# Altium footprint library PcbLib1.PcbLib: 22 footprints (part 1 of 2)
Each footprint in its own frame and in the unit in brackets; x right, y up, seen from the top. Pads: shape width x height; smd on the part's side, far side on the other; paste and mask are expansions set on the pad; w line width, h text height; cw(c..) or ccw(c..) is an arc to the next point about the centre after c.
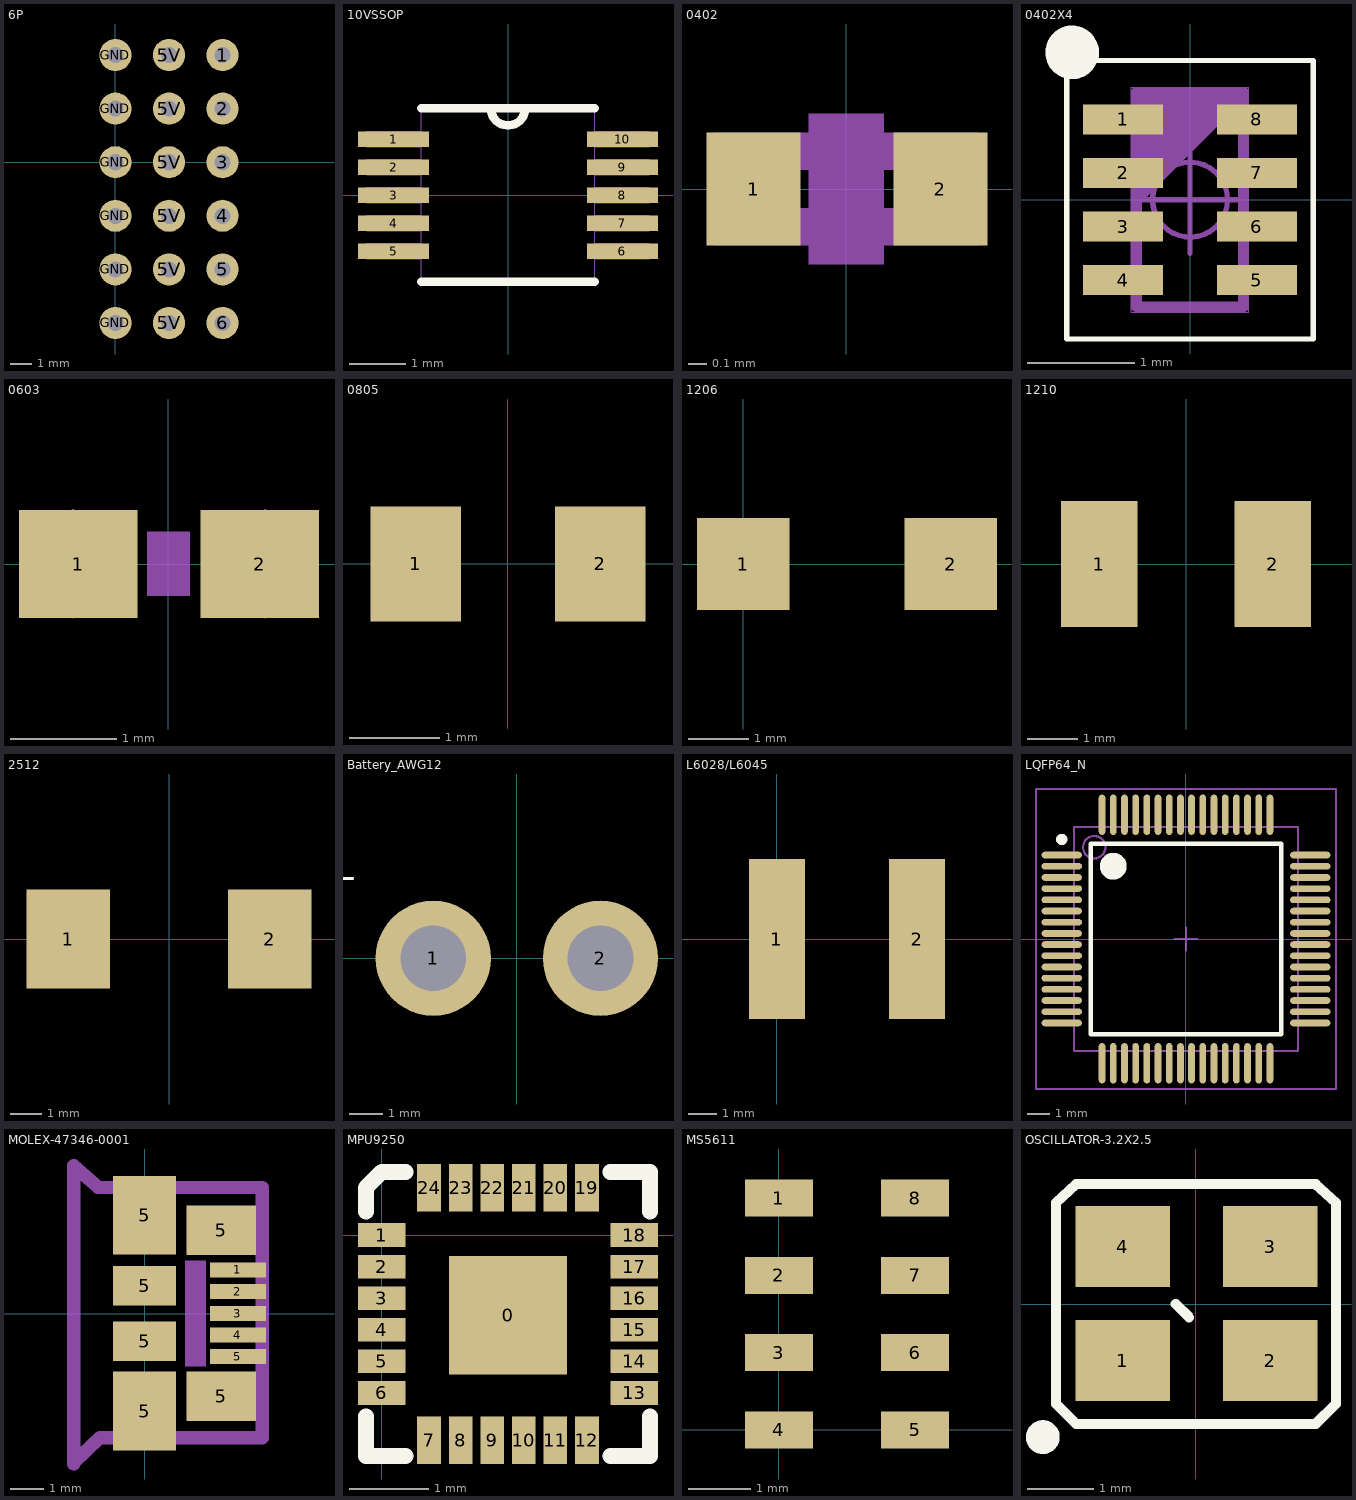
[diagram p0: the footprints below, top view; thin cyan lines are the x and y axes]

## 6P [mil]
pads (18):
  round 60 hole 30: 1(200,200) 2(200,100) 3(200,0) 4(200,-100) 5(200,-200) 5V(100,-300) 5V(100,-200) 5V(100,-100) 5V(100,0) 5V(100,100) 5V(100,200) 6(200,-300) GND(0,-300) GND(0,-200) GND(0,-100) GND(0,0) GND(0,100) GND(0,200)

## 10VSSOP [mil]
pads (10):
  rect 50x11 smd: 1(-80.5,39.37) 2(-80.5,19.68) 3(-80.5,0) 4(-80.5,-19.68) 5(-80.5,-39.37) 6(80.5,-39.37) 7(80.5,-19.68) 8(80.5,0) 9(80.5,19.68) 10(80.5,39.37)
Top Overlay:
  lines w6: -61,-61 61,-61 ; -61,61 61,61 ; -12,61 ccw(c0,61) 12,61
Mechanical 1:
  lines w0: -12,61 ccw(c0,61) 12,61 ; -99.5,-44.87 -61,-44.87 -61,-33.87 -99.5,-33.87 -99.5,-44.87 ; -99.5,-25.18 -61,-25.18 -61,-14.19 -99.5,-14.19 -99.5,-25.18 ; -99.5,-5.5 -61,-5.5 -61,5.5 -99.5,5.5 -99.5,-5.5 ; -99.5,14.19 -61,14.19 -61,25.18 -99.5,25.18 -99.5,14.19 ; -99.5,33.87 -61,33.87 -61,44.87 -99.5,44.87 -99.5,33.87 ; -61,-61 -61,61 61,61 61,-61 -61,-61 ; 61,-44.87 99.5,-44.87 99.5,-33.87 61,-33.87 61,-44.87 ; 61,-25.18 99.5,-25.18 99.5,-14.19 61,-14.19 61,-25.18 ; 61,-5.5 99.5,-5.5 99.5,5.5 61,5.5 61,-5.5 ; 61,14.19 99.5,14.19 99.5,25.18 61,25.18 61,14.19 ; 61,33.87 99.5,33.87 99.5,44.87 61,44.87 61,33.87

## 0402 [mil] "0402-RES"
pads (2):
  rect 20x24 smd: 1(-19.68,0) 2(20,0)
Mechanical 6:
  rectangle: -8,-16 8,16
Mechanical 16:
  rectangle: -28,-12 -16,12
  rectangle: 16,-12 28,12
  lines w8: -20,-8 20,-8 ; -20,8 20,8

## 0402X4 [mm]
pads (8):
  rect 0.75x0.28 smd: 1(-0.625,0.75) 2(-0.625,0.25) 3(-0.625,-0.25) 4(-0.625,-0.75) 5(0.625,-0.75) 6(0.625,-0.25) 7(0.625,0.25) 8(0.625,0.75)
Top Overlay:
  circle w0.25: c-1.1,1.375 r0.125
  lines w0.05: -1.15,-1.3 -1.15,1.3 1.15,1.3 1.15,-1.3 -1.15,-1.3
Mechanical 1:
  lines w0.1: 0.5,1 -0.5,0 0.5,1 ; 0.5,1 -0.5,1 -0.5,-1 0.5,-1 0.5,1 ; -0.5,0.1 0.4,1 -0.5,0.1 ; -0.5,0.2 0.3,1 -0.5,0.2 ; -0.5,0.3 0.2,1 -0.5,0.3 ; -0.5,0.4 0.1,1 -0.5,0.4 ; -0.5,0.5 0,1 -0.5,0.5 ; -0.5,0.6 -0.1,1 -0.5,0.6 ; -0.5,0.7 -0.2,1 -0.5,0.7 ; -0.5,0.8 -0.3,1 -0.5,0.8 ; -0.5,0.9 -0.4,1 -0.5,0.9
  text "R1" at 0.18,-0.199 h0.3
Mechanical 16:
  circle w0.05: c0,0 r0.35
  lines w0.001: -0.55,-1.05 -0.55,1.05 0.55,1.05 0.55,-1.05 -0.55,-1.05
  lines w0.05: -0.5,0 0.5,0 ; 0,-0.5 0,0.5

## 0603 [mil] "0603-RES"
pads (2):
  rect 44x40 smd: 1(-33.46,0) 2(34,0)
Mechanical 6:
  rectangle: -7.87,-11.81 8,12
Mechanical 16:
  rectangle: -32.98,-18.5 -13.29,19
  rectangle: 13,-18.5 33,19
  lines w1: -35.43,-19.68 -35.43,20 ; 36,-19.68 36,20

## 0805 [mm]
pads (2):
  rect 1x1.27 smd: 1(-1.016,0) 2(1.016,0)
3D body: height 0.8, standoff 0, extent -1.27,-0.762 1.27,0.762

## 1206 [mil]
pads (2):
  rect 60x60 smd: 1(0,0) 2(135,0)

## 1210 [mm]
pads (2):
  rect 1.52x2.5 smd: 1(-1.715,0) 2(1.715,0)

## 2512 [mm]
pads (2):
  rect 2.7x3.2 smd: 1(-3.25,0) 2(3.25,0)

## Battery_AWG12 [mm]
pads (2):
  round 3.5 hole 2: 1(-2.54,0) 2(2.54,0)
Top Overlay:
  text "+" at -4.826,2.032 h0.89

## L6028/L6045 [mm]
pads (2):
  rect 2x5.7 smd: 1(0,0) 2(5,0)

## LQFP64_N [mm]
pads (64):
  oval 1.8x0.3 smd: 1(-5.55,3.75) 2(-5.55,3.25) 3(-5.55,2.75) 4(-5.55,2.25) 5(-5.55,1.75) 6(-5.55,1.25) 7(-5.55,0.75) 8(-5.55,0.25) 9(-5.55,-0.25) 10(-5.55,-0.75) 11(-5.55,-1.25) 12(-5.55,-1.75) 13(-5.55,-2.25) 14(-5.55,-2.75) 15(-5.55,-3.25) 16(-5.55,-3.75) 33(5.55,-3.75) 34(5.55,-3.25) 35(5.55,-2.75) 36(5.55,-2.25) 37(5.55,-1.75) 38(5.55,-1.25) 39(5.55,-0.75) 40(5.55,-0.25) 41(5.55,0.25) 42(5.55,0.75) 43(5.55,1.25) 44(5.55,1.75) 45(5.55,2.25) 46(5.55,2.75) 47(5.55,3.25) 48(5.55,3.75)
  oval 0.3x1.8 smd: 17(-3.75,-5.55) 18(-3.25,-5.55) 19(-2.75,-5.55) 20(-2.25,-5.55) 21(-1.75,-5.55) 22(-1.25,-5.55) 23(-0.75,-5.55) 24(-0.25,-5.55) 25(0.25,-5.55) 26(0.75,-5.55) 27(1.25,-5.55) 28(1.75,-5.55) 29(2.25,-5.55) 30(2.75,-5.55) 31(3.25,-5.55) 32(3.75,-5.55) 49(3.75,5.55) 50(3.25,5.55) 51(2.75,5.55) 52(2.25,5.55) 53(1.75,5.55) 54(1.25,5.55) 55(0.75,5.55) 56(0.25,5.55) 57(-0.25,5.55) 58(-0.75,5.55) 59(-1.25,5.55) 60(-1.75,5.55) 61(-2.25,5.55) 62(-2.75,5.55) 63(-3.25,5.55) 64(-3.75,5.55)
Top Overlay:
  circle w0.25: c-5.55,4.45 r0.125
  circle w0.6: c-3.25,3.25 r0.3
  lines w0.2: -4.25,-4.25 -4.25,4.25 4.25,4.25 4.25,-4.25 -4.25,-4.25
Mechanical 13:
  circle w0.1: c-4.1,4.1 r0.5
  lines w0.1: -5,-5 -5,5 5,5 5,-5 -5,-5
Mechanical 15:
  lines w0.1: -0.5,0 0.5,0 ; 0,-0.5 0,0.5 ; -6.7,-6.7 -6.7,6.7 6.7,6.7 6.7,-6.7 -6.7,-6.7

## MOLEX-47346-0001 [mil] "MOLEX-47346-0001"
pads (11):
  rect 67x18 smd: 1(111,52) 2(111,26) 3(111,0) 4(111,-25.59) 5(111,-51.18)
  rect 75x94 smd: 5(0,-116.14) 5(0,117)
  rect 75x47 smd: 5(0,-32.97) 5(0,33)
  rect 83x59 smd: 5(91,-98.43) 5(91,99)
Mechanical 8:
  rectangle: 48,-62.99 73,63
Mechanical 16:
  lines w1: -86.61,-177.17 -86.61,178 -82.68,178 -55.12,150 138,150 142,146 142,-145.67 138,-149.61 -55.12,-149.61 -82.68,-177.17 -86.61,-177.17
  lines w16: -84.65,-179.13 -84.65,-177.17 ; -84.65,-177.17 -84.65,176 -55.12,150 140,150 140,-147.64 -53.15,-147.64 -84.65,-177.17

## MPU9250 [mm]
pads (25):
  rect 1.5x1.5 smd: 0(1.6,-1.016)
  rect 0.6x0.3 smd: 1(0,0) 2(0,-0.4) 3(0,-0.8) 4(0,-1.2) 5(0,-1.6) 6(0,-2) 13(3.2,-2) 14(3.2,-1.6) 15(3.2,-1.2) 16(3.2,-0.8) 17(3.2,-0.4) 18(3.2,0)
  rect 0.3x0.6 smd: 7(0.6,-2.6) 8(1,-2.6) 9(1.4,-2.6) 10(1.8,-2.6) 11(2.2,-2.6) 12(2.6,-2.6) 19(2.6,0.6) 20(2.2,0.6) 21(1.8,0.6) 22(1.4,0.6) 23(1,0.6) 24(0.6,0.6)
Top Overlay:
  lines w0.2: -0.2,-2.3 -0.2,-2.8 0.3,-2.8 ; -0.2,0.3 -0.2,0.6 0,0.8 0.3,0.8 ; 2.9,-2.8 3.4,-2.8 3.4,-2.3 ; 2.9,0.8 3.4,0.8 3.4,0.3
3D body: height 1, standoff 0, extent 0.102,-2.515 3.099,0.483

## MS5611 [mm]
pads (8):
  rect 1.1x0.6 smd: 1(0,3.75) 2(0,2.5) 3(0,1.25) 4(0,0) 5(2.2,0) 6(2.2,1.25) 7(2.2,2.5) 8(2.2,3.75)
3D body: height 1, standoff 0, extent -0.508,-0.508 2.667,4.318

## OSCILLATOR-3.2X2.5 [mil] "OSCILLATOR-3.2X2.5"
pads (4):
  rect 56x48 smd: 1(-43.31,-33.46) 2(44,-33.46) 3(44,34) 4(-43.31,34)
Top Overlay:
  circle w12: c-90.55,-78.74 r4
  lines w6: -11.81,0 -3.94,-7.87 ; -82.68,-59.06 -70.87,-70.87 71,-70.87 83,-59.06 83,60 71,71 -70.87,71 -82.68,60 -82.68,-59.06
Mechanical 16:
  lines w1: -82.68,-59.06 -70.87,-70.87 71,-70.87 83,-59.06 83,60 71,71 -70.87,71 -82.68,60 -82.68,-59.06